# EAGLE library part TBX0108 (library texasinstruments-levelshifters)
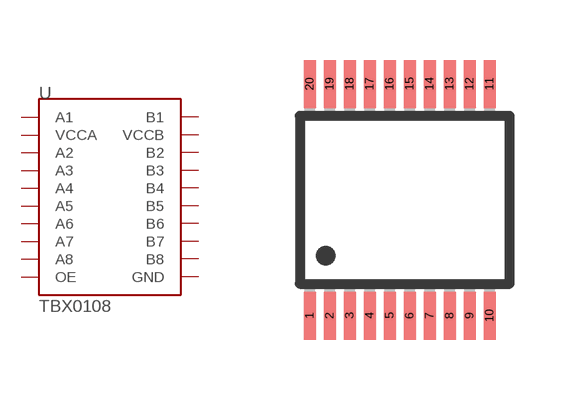
[diagram p1: symbol with the pads of TSSOP20; footprint TSSOP20]

Designator prefix -

## TBX0108  [TSSOP20]
1  A1
2  VCCA
3  A2
4  A3
5  A4
6  A5
7  A6
8  A7
9  A8
10  OE
11  GND
12  B8
13  B7
14  B6
15  B5
16  B4
17  B3
18  B2
19  VCCB
20  B1

## Footprint TSSOP20 (pad centres in mm)
smd 0.3 x 1.2: 1 -1.96,-2.9; 2 -1.46,-2.9; 3 -0.96,-2.9; 4 -0.46,-2.9; 5 0.04,-2.9; 6 0.54,-2.9; 7 1.04,-2.9; 8 1.54,-2.9; 9 2.04,-2.9; 10 2.54,-2.9; 11 2.54,2.9; 12 2.04,2.9; 13 1.54,2.9; 14 1.04,2.9; 15 0.54,2.9; 16 0.04,2.9; 17 -0.46,2.9; 18 -0.96,2.9; 19 -1.46,2.9; 20 -1.96,2.9